# EAGLE library part XR-T6165 (library exar)
Codirectional digital PROCESSOR
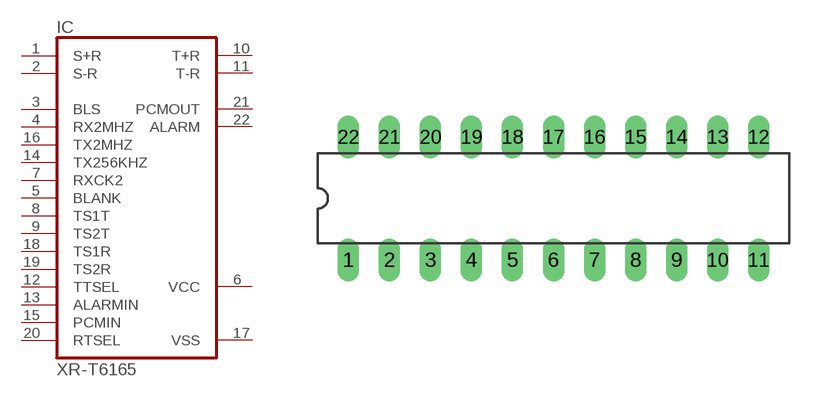
[diagram p76: symbol with the pads of DIL22-3; footprint DIL22-3]

Designator prefix IC

## XR-T6165 (OC_FARNELL: unknown; OC_NEWARK: unknown)  [DIL22-3]
1  S+R  in
2  S-R  in
3  BLS  in
4  RX2MHZ  in
5  BLANK  in
6  VCC  pwr
7  RXCK2  in
8  TS1T  in
9  TS2T  in
10  T+R  out
11  T-R  out
12  TTSEL  in
13  ALARMIN  in
14  TX256KHZ  in
15  PCMIN  in
16  TX2MHZ  in
17  VSS  pwr
18  TS1R  in
19  TS2R  in
20  RTSEL  in
21  PCMOUT  out
22  ALARM  out

## Footprint DIL22-3 (pad centres in mm)
Dual In Line Package 0.3 inch
drill 0.813 long: 1 -12.7,-3.81; 2 -10.16,-3.81; 3 -7.62,-3.81; 4 -5.08,-3.81; 5 -2.54,-3.81; 6 0,-3.81; 7 2.54,-3.81; 8 5.08,-3.81; 9 7.62,-3.81; 10 10.16,-3.81; 11 12.7,-3.81; 12 12.7,3.81; 13 10.16,3.81; 14 7.62,3.81; 15 5.08,3.81; 16 2.54,3.81; 17 0,3.81; 18 -2.54,3.81; 19 -5.08,3.81; 20 -7.62,3.81; 21 -10.16,3.81; 22 -12.7,3.81